# Altium footprint library Connectors_2mm.PcbLib: 81 footprints (part 4 of 6)
Each footprint in its own frame and in the unit in brackets; x right, y up, seen from the top. Pads: shape width x height; smd on the part's side, far side on the other; paste and mask are expansions set on the pad; w line width, h text height; cw(c..) or ccw(c..) is an arc to the next point about the centre after c.
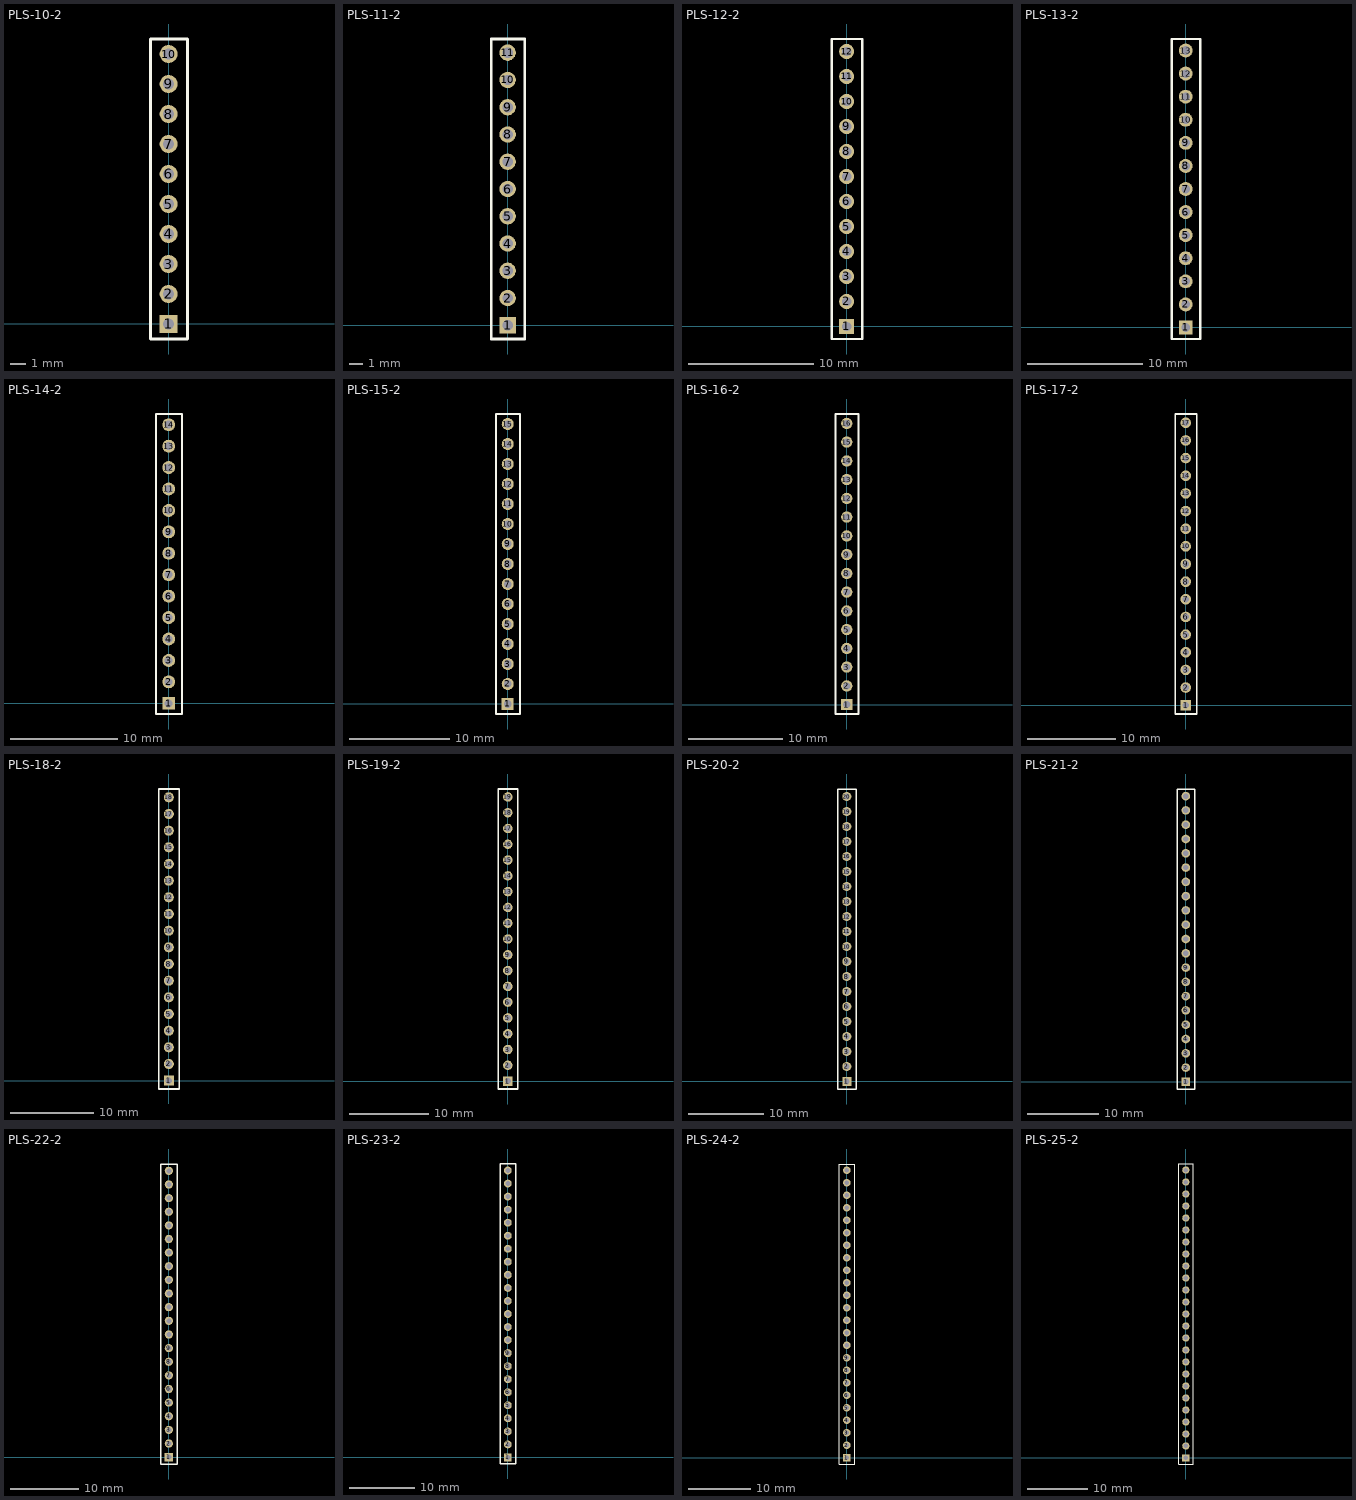
[diagram p3: the footprints below, top view; thin cyan lines are the x and y axes]

## PLS-10-2 [mm] "Connector; Header; 1x10 Position"
height 6
pads (10):
  rect 1.2x1.2 hole 0.75: 1(0,0)
  round 1.2 hole 0.75: 2(0,2) 3(0,4) 4(0,6) 5(0,8)
  round 1.2 hole 0.75 unplated: 6(0,10) 7(0,12) 8(0,14) 9(0,16) 10(0,18)
Top Overlay:
  lines w0.2: -1.2,-1 1.25,-1 1.25,19 -1.2,19 -1.2,-1
3D body "pls-2mm.stp": height 5.5, standoff -2.5, extent -1.2,7 1.2,9
3D body "pls-2mm.stp": height 5.5, standoff -2.5, extent -1.2,5 1.2,7
3D body "pls-2mm.stp": height 5.5, standoff -2.5, extent -1.2,3 1.2,5
3D body "pls-2mm.stp": height 5.5, standoff -2.5, extent -1.2,1 1.2,3
3D body "pls-2mm.stp": height 5.5, standoff -2.5, extent -1.2,-1 1.2,1
3D body "pls-2mm.stp": height 5.5, standoff -2.5, extent -1.2,9 1.2,11
3D body "pls-2mm.stp": height 5.5, standoff -2.5, extent -1.2,11 1.2,13
3D body "pls-2mm.stp": height 5.5, standoff -2.5, extent -1.2,13 1.2,15
3D body "pls-2mm.stp": height 5.5, standoff -2.5, extent -1.2,15 1.2,17
3D body "pls-2mm.stp": height 5.5, standoff -2.5, extent -1.2,17 1.2,19

## PLS-11-2 [mm] "Connector; Header; 1x11 Position"
height 6
pads (11):
  rect 1.2x1.2 hole 0.75: 1(0,0)
  round 1.2 hole 0.75: 2(0,2) 3(0,4) 4(0,6) 5(0,8)
  round 1.2 hole 0.75 unplated: 6(0,10) 7(0,12) 8(0,14) 9(0,16) 10(0,18) 11(0,20)
Top Overlay:
  lines w0.2: -1.2,-1 -1.2,21 1.25,21 1.25,-1 -1.2,-1
3D body "pls-2mm.stp": height 5.5, standoff -2.5, extent -1.2,19 1.2,21
3D body "pls-2mm.stp": height 5.5, standoff -2.5, extent -1.2,17 1.2,19
3D body "pls-2mm.stp": height 5.5, standoff -2.5, extent -1.2,15 1.2,17
3D body "pls-2mm.stp": height 5.5, standoff -2.5, extent -1.2,13 1.2,15
3D body "pls-2mm.stp": height 5.5, standoff -2.5, extent -1.2,11 1.2,13
3D body "pls-2mm.stp": height 5.5, standoff -2.5, extent -1.2,9 1.2,11
3D body "pls-2mm.stp": height 5.5, standoff -2.5, extent -1.2,-1 1.2,1
3D body "pls-2mm.stp": height 5.5, standoff -2.5, extent -1.2,1 1.2,3
3D body "pls-2mm.stp": height 5.5, standoff -2.5, extent -1.2,3 1.2,5
3D body "pls-2mm.stp": height 5.5, standoff -2.5, extent -1.2,5 1.2,7
3D body "pls-2mm.stp": height 5.5, standoff -2.5, extent -1.2,7 1.2,9

## PLS-12-2 [mm] "Connector; Header; 1x12 Position"
height 6
pads (12):
  rect 1.2x1.2 hole 0.75: 1(0,0)
  round 1.2 hole 0.75: 2(0,2) 3(0,4) 4(0,6) 5(0,8)
  round 1.2 hole 0.75 unplated: 6(0,10) 7(0,12) 8(0,14) 9(0,16) 10(0,18) 11(0,20) 12(0,22)
Top Overlay:
  lines w0.2: -1.2,-1 1.25,-1 1.25,23 -1.2,23 -1.2,-1
3D body "pls-2mm.stp": height 5.5, standoff -2.5, extent -1.2,7 1.2,9
3D body "pls-2mm.stp": height 5.5, standoff -2.5, extent -1.2,5 1.2,7
3D body "pls-2mm.stp": height 5.5, standoff -2.5, extent -1.2,3 1.2,5
3D body "pls-2mm.stp": height 5.5, standoff -2.5, extent -1.2,1 1.2,3
3D body "pls-2mm.stp": height 5.5, standoff -2.5, extent -1.2,-1 1.2,1
3D body "pls-2mm.stp": height 5.5, standoff -2.5, extent -1.2,9 1.2,11
3D body "pls-2mm.stp": height 5.5, standoff -2.5, extent -1.2,11 1.2,13
3D body "pls-2mm.stp": height 5.5, standoff -2.5, extent -1.2,13 1.2,15
3D body "pls-2mm.stp": height 5.5, standoff -2.5, extent -1.2,15 1.2,17
3D body "pls-2mm.stp": height 5.5, standoff -2.5, extent -1.2,17 1.2,19
3D body "pls-2mm.stp": height 5.5, standoff -2.5, extent -1.2,19 1.2,21
3D body "pls-2mm.stp": height 5.5, standoff -2.5, extent -1.2,21 1.2,23

## PLS-13-2 [mm] "Connector; Header; 1x13 Position"
height 6
pads (13):
  rect 1.2x1.2 hole 0.75: 1(0,0)
  round 1.2 hole 0.75: 2(0,2) 3(0,4) 4(0,6) 5(0,8)
  round 1.2 hole 0.75 unplated: 6(0,10) 7(0,12) 8(0,14) 9(0,16) 10(0,18) 11(0,20) 12(0,22) 13(0,24)
Top Overlay:
  lines w0.2: -1.2,-1 1.25,-1 1.25,25 -1.2,25 -1.2,-1
3D body "pls-2mm.stp": height 5.5, standoff -2.5, extent -1.2,7 1.2,9
3D body "pls-2mm.stp": height 5.5, standoff -2.5, extent -1.2,5 1.2,7
3D body "pls-2mm.stp": height 5.5, standoff -2.5, extent -1.2,3 1.2,5
3D body "pls-2mm.stp": height 5.5, standoff -2.5, extent -1.2,1 1.2,3
3D body "pls-2mm.stp": height 5.5, standoff -2.5, extent -1.2,-1 1.2,1
3D body "pls-2mm.stp": height 5.5, standoff -2.5, extent -1.2,9 1.2,11
3D body "pls-2mm.stp": height 5.5, standoff -2.5, extent -1.2,11 1.2,13
3D body "pls-2mm.stp": height 5.5, standoff -2.5, extent -1.2,13 1.2,15
3D body "pls-2mm.stp": height 5.5, standoff -2.5, extent -1.2,15 1.2,17
3D body "pls-2mm.stp": height 5.5, standoff -2.5, extent -1.2,17 1.2,19
3D body "pls-2mm.stp": height 5.5, standoff -2.5, extent -1.2,19 1.2,21
3D body "pls-2mm.stp": height 5.5, standoff -2.5, extent -1.2,21 1.2,23
3D body "pls-2mm.stp": height 5.5, standoff -2.5, extent -1.2,23 1.2,25

## PLS-14-2 [mm] "Connector; Header; 1x14 Position"
height 6
pads (14):
  rect 1.2x1.2 hole 0.75: 1(0,0)
  round 1.2 hole 0.75: 2(0,2) 3(0,4) 4(0,6) 5(0,8)
  round 1.2 hole 0.75 unplated: 6(0,10) 7(0,12) 8(0,14) 9(0,16) 10(0,18) 11(0,20) 12(0,22) 13(0,24) 14(0,26)
Top Overlay:
  lines w0.2: -1.2,-1 -1.2,27 1.25,27 1.25,-1 -1.2,-1
3D body "pls-2mm.stp": height 5.5, standoff -2.5, extent -1.2,25 1.2,27
3D body "pls-2mm.stp": height 5.5, standoff -2.5, extent -1.2,23 1.2,25
3D body "pls-2mm.stp": height 5.5, standoff -2.5, extent -1.2,21 1.2,23
3D body "pls-2mm.stp": height 5.5, standoff -2.5, extent -1.2,19 1.2,21
3D body "pls-2mm.stp": height 5.5, standoff -2.5, extent -1.2,17 1.2,19
3D body "pls-2mm.stp": height 5.5, standoff -2.5, extent -1.2,15 1.2,17
3D body "pls-2mm.stp": height 5.5, standoff -2.5, extent -1.2,13 1.2,15
3D body "pls-2mm.stp": height 5.5, standoff -2.5, extent -1.2,11 1.2,13
3D body "pls-2mm.stp": height 5.5, standoff -2.5, extent -1.2,9 1.2,11
3D body "pls-2mm.stp": height 5.5, standoff -2.5, extent -1.2,-1 1.2,1
3D body "pls-2mm.stp": height 5.5, standoff -2.5, extent -1.2,1 1.2,3
3D body "pls-2mm.stp": height 5.5, standoff -2.5, extent -1.2,3 1.2,5
3D body "pls-2mm.stp": height 5.5, standoff -2.5, extent -1.2,5 1.2,7
3D body "pls-2mm.stp": height 5.5, standoff -2.5, extent -1.2,7 1.2,9

## PLS-15-2 [mm] "Connector; Header; 1x15 Position"
height 6
pads (15):
  rect 1.2x1.2 hole 0.75: 1(0,0)
  round 1.2 hole 0.75: 2(0,2) 3(0,4) 4(0,6) 5(0,8)
  round 1.2 hole 0.75 unplated: 6(0,10) 7(0,12) 8(0,14) 9(0,16) 10(0,18) 11(0,20) 12(0,22) 13(0,24) 14(0,26) 15(0,28)
Top Overlay:
  lines w0.2: -1.2,-1 1.25,-1 1.25,29 -1.2,29 -1.2,-1
3D body "pls-2mm.stp": height 5.5, standoff -2.5, extent -1.2,7 1.2,9
3D body "pls-2mm.stp": height 5.5, standoff -2.5, extent -1.2,5 1.2,7
3D body "pls-2mm.stp": height 5.5, standoff -2.5, extent -1.2,3 1.2,5
3D body "pls-2mm.stp": height 5.5, standoff -2.5, extent -1.2,1 1.2,3
3D body "pls-2mm.stp": height 5.5, standoff -2.5, extent -1.2,-1 1.2,1
3D body "pls-2mm.stp": height 5.5, standoff -2.5, extent -1.2,9 1.2,11
3D body "pls-2mm.stp": height 5.5, standoff -2.5, extent -1.2,11 1.2,13
3D body "pls-2mm.stp": height 5.5, standoff -2.5, extent -1.2,13 1.2,15
3D body "pls-2mm.stp": height 5.5, standoff -2.5, extent -1.2,15 1.2,17
3D body "pls-2mm.stp": height 5.5, standoff -2.5, extent -1.2,17 1.2,19
3D body "pls-2mm.stp": height 5.5, standoff -2.5, extent -1.2,19 1.2,21
3D body "pls-2mm.stp": height 5.5, standoff -2.5, extent -1.2,21 1.2,23
3D body "pls-2mm.stp": height 5.5, standoff -2.5, extent -1.2,23 1.2,25
3D body "pls-2mm.stp": height 5.5, standoff -2.5, extent -1.2,25 1.2,27
3D body "pls-2mm.stp": height 5.5, standoff -2.5, extent -1.2,27 1.2,29

## PLS-16-2 [mm] "Connector; Header; 1x16 Position"
height 6
pads (16):
  rect 1.2x1.2 hole 0.75: 1(0,0)
  round 1.2 hole 0.75: 2(0,2) 3(0,4) 4(0,6) 5(0,8)
  round 1.2 hole 0.75 unplated: 6(0,10) 7(0,12) 8(0,14) 9(0,16) 10(0,18) 11(0,20) 12(0,22) 13(0,24) 14(0,26) 15(0,28) 16(0,30)
Top Overlay:
  lines w0.2: -1.2,-1 -1.2,31 1.25,31 1.25,-1 -1.2,-1
3D body "pls-2mm.stp": height 5.5, standoff -2.5, extent -1.2,29 1.2,31
3D body "pls-2mm.stp": height 5.5, standoff -2.5, extent -1.2,27 1.2,29
3D body "pls-2mm.stp": height 5.5, standoff -2.5, extent -1.2,25 1.2,27
3D body "pls-2mm.stp": height 5.5, standoff -2.5, extent -1.2,23 1.2,25
3D body "pls-2mm.stp": height 5.5, standoff -2.5, extent -1.2,21 1.2,23
3D body "pls-2mm.stp": height 5.5, standoff -2.5, extent -1.2,19 1.2,21
3D body "pls-2mm.stp": height 5.5, standoff -2.5, extent -1.2,17 1.2,19
3D body "pls-2mm.stp": height 5.5, standoff -2.5, extent -1.2,15 1.2,17
3D body "pls-2mm.stp": height 5.5, standoff -2.5, extent -1.2,13 1.2,15
3D body "pls-2mm.stp": height 5.5, standoff -2.5, extent -1.2,11 1.2,13
3D body "pls-2mm.stp": height 5.5, standoff -2.5, extent -1.2,9 1.2,11
3D body "pls-2mm.stp": height 5.5, standoff -2.5, extent -1.2,-1 1.2,1
3D body "pls-2mm.stp": height 5.5, standoff -2.5, extent -1.2,1 1.2,3
3D body "pls-2mm.stp": height 5.5, standoff -2.5, extent -1.2,3 1.2,5
3D body "pls-2mm.stp": height 5.5, standoff -2.5, extent -1.2,5 1.2,7
3D body "pls-2mm.stp": height 5.5, standoff -2.5, extent -1.2,7 1.2,9

## PLS-17-2 [mm] "Connector; Header; 1x17 Position"
height 6
pads (17):
  rect 1.2x1.2 hole 0.75: 1(0,0)
  round 1.2 hole 0.75: 2(0,2) 3(0,4) 4(0,6) 5(0,8)
  round 1.2 hole 0.75 unplated: 6(0,10) 7(0,12) 8(0,14) 9(0,16) 10(0,18) 11(0,20) 12(0,22) 13(0,24) 14(0,26) 15(0,28) 16(0,30) 17(0,32)
Top Overlay:
  lines w0.2: -1.2,-1 1.25,-1 1.25,33 -1.2,33 -1.2,-1
3D body "pls-2mm.stp": height 5.5, standoff -2.5, extent -1.2,7 1.2,9
3D body "pls-2mm.stp": height 5.5, standoff -2.5, extent -1.2,5 1.2,7
3D body "pls-2mm.stp": height 5.5, standoff -2.5, extent -1.2,3 1.2,5
3D body "pls-2mm.stp": height 5.5, standoff -2.5, extent -1.2,1 1.2,3
3D body "pls-2mm.stp": height 5.5, standoff -2.5, extent -1.2,-1 1.2,1
3D body "pls-2mm.stp": height 5.5, standoff -2.5, extent -1.2,9 1.2,11
3D body "pls-2mm.stp": height 5.5, standoff -2.5, extent -1.2,11 1.2,13
3D body "pls-2mm.stp": height 5.5, standoff -2.5, extent -1.2,13 1.2,15
3D body "pls-2mm.stp": height 5.5, standoff -2.5, extent -1.2,15 1.2,17
3D body "pls-2mm.stp": height 5.5, standoff -2.5, extent -1.2,17 1.2,19
3D body "pls-2mm.stp": height 5.5, standoff -2.5, extent -1.2,19 1.2,21
3D body "pls-2mm.stp": height 5.5, standoff -2.5, extent -1.2,21 1.2,23
3D body "pls-2mm.stp": height 5.5, standoff -2.5, extent -1.2,23 1.2,25
3D body "pls-2mm.stp": height 5.5, standoff -2.5, extent -1.2,25 1.2,27
3D body "pls-2mm.stp": height 5.5, standoff -2.5, extent -1.2,27 1.2,29
3D body "pls-2mm.stp": height 5.5, standoff -2.5, extent -1.2,29 1.2,31
3D body "pls-2mm.stp": height 5.5, standoff -2.5, extent -1.2,31 1.2,33

## PLS-18-2 [mm] "Connector; Header; 1x18 Position"
height 6
pads (18):
  rect 1.2x1.2 hole 0.75: 1(0,0)
  round 1.2 hole 0.75: 2(0,2) 3(0,4) 4(0,6) 5(0,8)
  round 1.2 hole 0.75 unplated: 6(0,10) 7(0,12) 8(0,14) 9(0,16) 10(0,18) 11(0,20) 12(0,22) 13(0,24) 14(0,26) 15(0,28) 16(0,30) 17(0,32) 18(0,34)
Top Overlay:
  lines w0.2: -1.2,-1 -1.2,35 1.25,35 1.25,-1 -1.2,-1
3D body "pls-2mm.stp": height 5.5, standoff -2.5, extent -1.2,33 1.2,35
3D body "pls-2mm.stp": height 5.5, standoff -2.5, extent -1.2,31 1.2,33
3D body "pls-2mm.stp": height 5.5, standoff -2.5, extent -1.2,29 1.2,31
3D body "pls-2mm.stp": height 5.5, standoff -2.5, extent -1.2,27 1.2,29
3D body "pls-2mm.stp": height 5.5, standoff -2.5, extent -1.2,25 1.2,27
3D body "pls-2mm.stp": height 5.5, standoff -2.5, extent -1.2,23 1.2,25
3D body "pls-2mm.stp": height 5.5, standoff -2.5, extent -1.2,21 1.2,23
3D body "pls-2mm.stp": height 5.5, standoff -2.5, extent -1.2,19 1.2,21
3D body "pls-2mm.stp": height 5.5, standoff -2.5, extent -1.2,17 1.2,19
3D body "pls-2mm.stp": height 5.5, standoff -2.5, extent -1.2,15 1.2,17
3D body "pls-2mm.stp": height 5.5, standoff -2.5, extent -1.2,13 1.2,15
3D body "pls-2mm.stp": height 5.5, standoff -2.5, extent -1.2,11 1.2,13
3D body "pls-2mm.stp": height 5.5, standoff -2.5, extent -1.2,9 1.2,11
3D body "pls-2mm.stp": height 5.5, standoff -2.5, extent -1.2,-1 1.2,1
3D body "pls-2mm.stp": height 5.5, standoff -2.5, extent -1.2,1 1.2,3
3D body "pls-2mm.stp": height 5.5, standoff -2.5, extent -1.2,3 1.2,5
3D body "pls-2mm.stp": height 5.5, standoff -2.5, extent -1.2,5 1.2,7
3D body "pls-2mm.stp": height 5.5, standoff -2.5, extent -1.2,7 1.2,9

## PLS-19-2 [mm] "Connector; Header; 1x19 Position"
height 6
pads (19):
  rect 1.2x1.2 hole 0.75: 1(0,0)
  round 1.2 hole 0.75: 2(0,2) 3(0,4) 4(0,6) 5(0,8)
  round 1.2 hole 0.75 unplated: 6(0,10) 7(0,12) 8(0,14) 9(0,16) 10(0,18) 11(0,20) 12(0,22) 13(0,24) 14(0,26) 15(0,28) 16(0,30) 17(0,32) 18(0,34) 19(0,36)
Top Overlay:
  lines w0.2: -1.2,-1 -1.2,37 1.25,37 1.25,-1 -1.2,-1
3D body "pls-2mm.stp": height 5.5, standoff -2.5, extent -1.2,35 1.2,37
3D body "pls-2mm.stp": height 5.5, standoff -2.5, extent -1.2,33 1.2,35
3D body "pls-2mm.stp": height 5.5, standoff -2.5, extent -1.2,31 1.2,33
3D body "pls-2mm.stp": height 5.5, standoff -2.5, extent -1.2,29 1.2,31
3D body "pls-2mm.stp": height 5.5, standoff -2.5, extent -1.2,27 1.2,29
3D body "pls-2mm.stp": height 5.5, standoff -2.5, extent -1.2,25 1.2,27
3D body "pls-2mm.stp": height 5.5, standoff -2.5, extent -1.2,23 1.2,25
3D body "pls-2mm.stp": height 5.5, standoff -2.5, extent -1.2,21 1.2,23
3D body "pls-2mm.stp": height 5.5, standoff -2.5, extent -1.2,19 1.2,21
3D body "pls-2mm.stp": height 5.5, standoff -2.5, extent -1.2,17 1.2,19
3D body "pls-2mm.stp": height 5.5, standoff -2.5, extent -1.2,15 1.2,17
3D body "pls-2mm.stp": height 5.5, standoff -2.5, extent -1.2,13 1.2,15
3D body "pls-2mm.stp": height 5.5, standoff -2.5, extent -1.2,11 1.2,13
3D body "pls-2mm.stp": height 5.5, standoff -2.5, extent -1.2,9 1.2,11
3D body "pls-2mm.stp": height 5.5, standoff -2.5, extent -1.2,-1 1.2,1
3D body "pls-2mm.stp": height 5.5, standoff -2.5, extent -1.2,1 1.2,3
3D body "pls-2mm.stp": height 5.5, standoff -2.5, extent -1.2,3 1.2,5
3D body "pls-2mm.stp": height 5.5, standoff -2.5, extent -1.2,5 1.2,7
3D body "pls-2mm.stp": height 5.5, standoff -2.5, extent -1.2,7 1.2,9

## PLS-20-2 [mm] "Connector; Header; 1x20 Position"
height 6
pads (20):
  rect 1.2x1.2 hole 0.75: 1(0,0)
  round 1.2 hole 0.75: 2(0,2) 3(0,4) 4(0,6) 5(0,8)
  round 1.2 hole 0.75 unplated: 6(0,10) 7(0,12) 8(0,14) 9(0,16) 10(0,18) 11(0,20) 12(0,22) 13(0,24) 14(0,26) 15(0,28) 16(0,30) 17(0,32) 18(0,34) 19(0,36) 20(0,38)
Top Overlay:
  lines w0.2: -1.2,-1 -1.2,39 1.25,39 1.25,-1 -1.2,-1
3D body "pls-2mm.stp": height 5.5, standoff -2.5, extent -1.2,37 1.2,39
3D body "pls-2mm.stp": height 5.5, standoff -2.5, extent -1.2,35 1.2,37
3D body "pls-2mm.stp": height 5.5, standoff -2.5, extent -1.2,33 1.2,35
3D body "pls-2mm.stp": height 5.5, standoff -2.5, extent -1.2,31 1.2,33
3D body "pls-2mm.stp": height 5.5, standoff -2.5, extent -1.2,29 1.2,31
3D body "pls-2mm.stp": height 5.5, standoff -2.5, extent -1.2,27 1.2,29
3D body "pls-2mm.stp": height 5.5, standoff -2.5, extent -1.2,25 1.2,27
3D body "pls-2mm.stp": height 5.5, standoff -2.5, extent -1.2,23 1.2,25
3D body "pls-2mm.stp": height 5.5, standoff -2.5, extent -1.2,21 1.2,23
3D body "pls-2mm.stp": height 5.5, standoff -2.5, extent -1.2,19 1.2,21
3D body "pls-2mm.stp": height 5.5, standoff -2.5, extent -1.2,17 1.2,19
3D body "pls-2mm.stp": height 5.5, standoff -2.5, extent -1.2,15 1.2,17
3D body "pls-2mm.stp": height 5.5, standoff -2.5, extent -1.2,13 1.2,15
3D body "pls-2mm.stp": height 5.5, standoff -2.5, extent -1.2,11 1.2,13
3D body "pls-2mm.stp": height 5.5, standoff -2.5, extent -1.2,9 1.2,11
3D body "pls-2mm.stp": height 5.5, standoff -2.5, extent -1.2,-1 1.2,1
3D body "pls-2mm.stp": height 5.5, standoff -2.5, extent -1.2,1 1.2,3
3D body "pls-2mm.stp": height 5.5, standoff -2.5, extent -1.2,3 1.2,5
3D body "pls-2mm.stp": height 5.5, standoff -2.5, extent -1.2,5 1.2,7
3D body "pls-2mm.stp": height 5.5, standoff -2.5, extent -1.2,7 1.2,9

## PLS-21-2 [mm] "Connector; Header; 1x21 Position"
height 6
pads (21):
  rect 1.2x1.2 hole 0.75: 1(0,0)
  round 1.2 hole 0.75: 2(0,2) 3(0,4) 4(0,6) 5(0,8)
  round 1.2 hole 0.75 unplated: 6(0,10) 7(0,12) 8(0,14) 9(0,16) 10(0,18) 11(0,20) 12(0,22) 13(0,24) 14(0,26) 15(0,28) 16(0,30) 17(0,32) 18(0,34) 19(0,36) 20(0,38) 21(0,40)
Top Overlay:
  lines w0.2: -1.2,-1 -1.2,41 1.25,41 1.25,-1 -1.2,-1
3D body "pls-2mm.stp": height 5.5, standoff -2.5, extent -1.2,39 1.2,41
3D body "pls-2mm.stp": height 5.5, standoff -2.5, extent -1.2,37 1.2,39
3D body "pls-2mm.stp": height 5.5, standoff -2.5, extent -1.2,35 1.2,37
3D body "pls-2mm.stp": height 5.5, standoff -2.5, extent -1.2,33 1.2,35
3D body "pls-2mm.stp": height 5.5, standoff -2.5, extent -1.2,31 1.2,33
3D body "pls-2mm.stp": height 5.5, standoff -2.5, extent -1.2,29 1.2,31
3D body "pls-2mm.stp": height 5.5, standoff -2.5, extent -1.2,27 1.2,29
3D body "pls-2mm.stp": height 5.5, standoff -2.5, extent -1.2,25 1.2,27
3D body "pls-2mm.stp": height 5.5, standoff -2.5, extent -1.2,23 1.2,25
3D body "pls-2mm.stp": height 5.5, standoff -2.5, extent -1.2,21 1.2,23
3D body "pls-2mm.stp": height 5.5, standoff -2.5, extent -1.2,19 1.2,21
3D body "pls-2mm.stp": height 5.5, standoff -2.5, extent -1.2,17 1.2,19
3D body "pls-2mm.stp": height 5.5, standoff -2.5, extent -1.2,15 1.2,17
3D body "pls-2mm.stp": height 5.5, standoff -2.5, extent -1.2,13 1.2,15
3D body "pls-2mm.stp": height 5.5, standoff -2.5, extent -1.2,11 1.2,13
3D body "pls-2mm.stp": height 5.5, standoff -2.5, extent -1.2,9 1.2,11
3D body "pls-2mm.stp": height 5.5, standoff -2.5, extent -1.2,-1 1.2,1
3D body "pls-2mm.stp": height 5.5, standoff -2.5, extent -1.2,1 1.2,3
3D body "pls-2mm.stp": height 5.5, standoff -2.5, extent -1.2,3 1.2,5
3D body "pls-2mm.stp": height 5.5, standoff -2.5, extent -1.2,5 1.2,7
3D body "pls-2mm.stp": height 5.5, standoff -2.5, extent -1.2,7 1.2,9

## PLS-22-2 [mm] "Connector; Header; 1x22 Position"
height 6
pads (22):
  rect 1.2x1.2 hole 0.75: 1(0,0)
  round 1.2 hole 0.75: 2(0,2) 3(0,4) 4(0,6) 5(0,8)
  round 1.2 hole 0.75 unplated: 6(0,10) 7(0,12) 8(0,14) 9(0,16) 10(0,18) 11(0,20) 12(0,22) 13(0,24) 14(0,26) 15(0,28) 16(0,30) 17(0,32) 18(0,34) 19(0,36) 20(0,38) 21(0,40) 22(0,42)
Top Overlay:
  lines w0.2: -1.2,-1 -1.2,43 1.25,43 1.25,-1 -1.2,-1
3D body "pls-2mm.stp": height 5.5, standoff -2.5, extent -1.2,41 1.2,43
3D body "pls-2mm.stp": height 5.5, standoff -2.5, extent -1.2,39 1.2,41
3D body "pls-2mm.stp": height 5.5, standoff -2.5, extent -1.2,37 1.2,39
3D body "pls-2mm.stp": height 5.5, standoff -2.5, extent -1.2,35 1.2,37
3D body "pls-2mm.stp": height 5.5, standoff -2.5, extent -1.2,33 1.2,35
3D body "pls-2mm.stp": height 5.5, standoff -2.5, extent -1.2,31 1.2,33
3D body "pls-2mm.stp": height 5.5, standoff -2.5, extent -1.2,29 1.2,31
3D body "pls-2mm.stp": height 5.5, standoff -2.5, extent -1.2,27 1.2,29
3D body "pls-2mm.stp": height 5.5, standoff -2.5, extent -1.2,25 1.2,27
3D body "pls-2mm.stp": height 5.5, standoff -2.5, extent -1.2,23 1.2,25
3D body "pls-2mm.stp": height 5.5, standoff -2.5, extent -1.2,21 1.2,23
3D body "pls-2mm.stp": height 5.5, standoff -2.5, extent -1.2,19 1.2,21
3D body "pls-2mm.stp": height 5.5, standoff -2.5, extent -1.2,17 1.2,19
3D body "pls-2mm.stp": height 5.5, standoff -2.5, extent -1.2,15 1.2,17
3D body "pls-2mm.stp": height 5.5, standoff -2.5, extent -1.2,13 1.2,15
3D body "pls-2mm.stp": height 5.5, standoff -2.5, extent -1.2,11 1.2,13
3D body "pls-2mm.stp": height 5.5, standoff -2.5, extent -1.2,9 1.2,11
3D body "pls-2mm.stp": height 5.5, standoff -2.5, extent -1.2,-1 1.2,1
3D body "pls-2mm.stp": height 5.5, standoff -2.5, extent -1.2,1 1.2,3
3D body "pls-2mm.stp": height 5.5, standoff -2.5, extent -1.2,3 1.2,5
3D body "pls-2mm.stp": height 5.5, standoff -2.5, extent -1.2,5 1.2,7
3D body "pls-2mm.stp": height 5.5, standoff -2.5, extent -1.2,7 1.2,9

## PLS-23-2 [mm] "Connector; Header; 1x23 Position"
height 6
pads (23):
  rect 1.2x1.2 hole 0.75: 1(0,0)
  round 1.2 hole 0.75: 2(0,2) 3(0,4) 4(0,6) 5(0,8)
  round 1.2 hole 0.75 unplated: 6(0,10) 7(0,12) 8(0,14) 9(0,16) 10(0,18) 11(0,20) 12(0,22) 13(0,24) 14(0,26) 15(0,28) 16(0,30) 17(0,32) 18(0,34) 19(0,36) 20(0,38) 21(0,40) 22(0,42) 23(0,44)
Top Overlay:
  lines w0.2: -1.2,-1 1.25,-1 1.25,45 -1.2,45 -1.2,-1
3D body "pls-2mm.stp": height 5.5, standoff -2.5, extent -1.2,7 1.2,9
3D body "pls-2mm.stp": height 5.5, standoff -2.5, extent -1.2,5 1.2,7
3D body "pls-2mm.stp": height 5.5, standoff -2.5, extent -1.2,3 1.2,5
3D body "pls-2mm.stp": height 5.5, standoff -2.5, extent -1.2,1 1.2,3
3D body "pls-2mm.stp": height 5.5, standoff -2.5, extent -1.2,-1 1.2,1
3D body "pls-2mm.stp": height 5.5, standoff -2.5, extent -1.2,9 1.2,11
3D body "pls-2mm.stp": height 5.5, standoff -2.5, extent -1.2,11 1.2,13
3D body "pls-2mm.stp": height 5.5, standoff -2.5, extent -1.2,13 1.2,15
3D body "pls-2mm.stp": height 5.5, standoff -2.5, extent -1.2,15 1.2,17
3D body "pls-2mm.stp": height 5.5, standoff -2.5, extent -1.2,17 1.2,19
3D body "pls-2mm.stp": height 5.5, standoff -2.5, extent -1.2,19 1.2,21
3D body "pls-2mm.stp": height 5.5, standoff -2.5, extent -1.2,21 1.2,23
3D body "pls-2mm.stp": height 5.5, standoff -2.5, extent -1.2,23 1.2,25
3D body "pls-2mm.stp": height 5.5, standoff -2.5, extent -1.2,25 1.2,27
3D body "pls-2mm.stp": height 5.5, standoff -2.5, extent -1.2,27 1.2,29
3D body "pls-2mm.stp": height 5.5, standoff -2.5, extent -1.2,29 1.2,31
3D body "pls-2mm.stp": height 5.5, standoff -2.5, extent -1.2,31 1.2,33
3D body "pls-2mm.stp": height 5.5, standoff -2.5, extent -1.2,33 1.2,35
3D body "pls-2mm.stp": height 5.5, standoff -2.5, extent -1.2,35 1.2,37
3D body "pls-2mm.stp": height 5.5, standoff -2.5, extent -1.2,37 1.2,39
3D body "pls-2mm.stp": height 5.5, standoff -2.5, extent -1.2,39 1.2,41
3D body "pls-2mm.stp": height 5.5, standoff -2.5, extent -1.2,41 1.2,43
3D body "pls-2mm.stp": height 5.5, standoff -2.5, extent -1.2,43 1.2,45

## PLS-24-2 [mm] "Connector; Header; 1x24 Position"
height 6
pads (24):
  rect 1.2x1.2 hole 0.75: 1(0,0)
  round 1.2 hole 0.75: 2(0,2) 3(0,4) 4(0,6) 5(0,8)
  round 1.2 hole 0.75 unplated: 6(0,10) 7(0,12) 8(0,14) 9(0,16) 10(0,18) 11(0,20) 12(0,22) 13(0,24) 14(0,26) 15(0,28) 16(0,30) 17(0,32) 18(0,34) 19(0,36) 20(0,38) 21(0,40) 22(0,42) 23(0,44) 24(0,46)
Top Overlay:
  lines w0.2: -1.2,-1 -1.2,47 1.25,47 1.25,-1 -1.2,-1
3D body "pls-2mm.stp": height 5.5, standoff -2.5, extent -1.2,45 1.2,47
3D body "pls-2mm.stp": height 5.5, standoff -2.5, extent -1.2,43 1.2,45
3D body "pls-2mm.stp": height 5.5, standoff -2.5, extent -1.2,41 1.2,43
3D body "pls-2mm.stp": height 5.5, standoff -2.5, extent -1.2,39 1.2,41
3D body "pls-2mm.stp": height 5.5, standoff -2.5, extent -1.2,37 1.2,39
3D body "pls-2mm.stp": height 5.5, standoff -2.5, extent -1.2,35 1.2,37
3D body "pls-2mm.stp": height 5.5, standoff -2.5, extent -1.2,33 1.2,35
3D body "pls-2mm.stp": height 5.5, standoff -2.5, extent -1.2,31 1.2,33
3D body "pls-2mm.stp": height 5.5, standoff -2.5, extent -1.2,29 1.2,31
3D body "pls-2mm.stp": height 5.5, standoff -2.5, extent -1.2,27 1.2,29
3D body "pls-2mm.stp": height 5.5, standoff -2.5, extent -1.2,25 1.2,27
3D body "pls-2mm.stp": height 5.5, standoff -2.5, extent -1.2,23 1.2,25
3D body "pls-2mm.stp": height 5.5, standoff -2.5, extent -1.2,21 1.2,23
3D body "pls-2mm.stp": height 5.5, standoff -2.5, extent -1.2,19 1.2,21
3D body "pls-2mm.stp": height 5.5, standoff -2.5, extent -1.2,17 1.2,19
3D body "pls-2mm.stp": height 5.5, standoff -2.5, extent -1.2,15 1.2,17
3D body "pls-2mm.stp": height 5.5, standoff -2.5, extent -1.2,13 1.2,15
3D body "pls-2mm.stp": height 5.5, standoff -2.5, extent -1.2,11 1.2,13
3D body "pls-2mm.stp": height 5.5, standoff -2.5, extent -1.2,9 1.2,11
3D body "pls-2mm.stp": height 5.5, standoff -2.5, extent -1.2,-1 1.2,1
3D body "pls-2mm.stp": height 5.5, standoff -2.5, extent -1.2,1 1.2,3
3D body "pls-2mm.stp": height 5.5, standoff -2.5, extent -1.2,3 1.2,5
3D body "pls-2mm.stp": height 5.5, standoff -2.5, extent -1.2,5 1.2,7
3D body "pls-2mm.stp": height 5.5, standoff -2.5, extent -1.2,7 1.2,9

## PLS-25-2 [mm] "Connector; Header; 1x25 Position"
height 6
pads (25):
  rect 1.2x1.2 hole 0.75: 1(0,0)
  round 1.2 hole 0.75: 2(0,2) 3(0,4) 4(0,6) 5(0,8)
  round 1.2 hole 0.75 unplated: 6(0,10) 7(0,12) 8(0,14) 9(0,16) 10(0,18) 11(0,20) 12(0,22) 13(0,24) 14(0,26) 15(0,28) 16(0,30) 17(0,32) 18(0,34) 19(0,36) 20(0,38) 21(0,40) 22(0,42) 23(0,44) 24(0,46) 25(0,48)
Top Overlay:
  lines w0.2: -1.2,-1 1.25,-1 1.25,49 -1.2,49 -1.2,-1
3D body "pls-2mm.stp": height 5.5, standoff -2.5, extent -1.2,7 1.2,9
3D body "pls-2mm.stp": height 5.5, standoff -2.5, extent -1.2,5 1.2,7
3D body "pls-2mm.stp": height 5.5, standoff -2.5, extent -1.2,3 1.2,5
3D body "pls-2mm.stp": height 5.5, standoff -2.5, extent -1.2,1 1.2,3
3D body "pls-2mm.stp": height 5.5, standoff -2.5, extent -1.2,-1 1.2,1
3D body "pls-2mm.stp": height 5.5, standoff -2.5, extent -1.2,9 1.2,11
3D body "pls-2mm.stp": height 5.5, standoff -2.5, extent -1.2,11 1.2,13
3D body "pls-2mm.stp": height 5.5, standoff -2.5, extent -1.2,13 1.2,15
3D body "pls-2mm.stp": height 5.5, standoff -2.5, extent -1.2,15 1.2,17
3D body "pls-2mm.stp": height 5.5, standoff -2.5, extent -1.2,17 1.2,19
3D body "pls-2mm.stp": height 5.5, standoff -2.5, extent -1.2,19 1.2,21
3D body "pls-2mm.stp": height 5.5, standoff -2.5, extent -1.2,21 1.2,23
3D body "pls-2mm.stp": height 5.5, standoff -2.5, extent -1.2,23 1.2,25
3D body "pls-2mm.stp": height 5.5, standoff -2.5, extent -1.2,25 1.2,27
3D body "pls-2mm.stp": height 5.5, standoff -2.5, extent -1.2,27 1.2,29
3D body "pls-2mm.stp": height 5.5, standoff -2.5, extent -1.2,29 1.2,31
3D body "pls-2mm.stp": height 5.5, standoff -2.5, extent -1.2,31 1.2,33
3D body "pls-2mm.stp": height 5.5, standoff -2.5, extent -1.2,33 1.2,35
3D body "pls-2mm.stp": height 5.5, standoff -2.5, extent -1.2,35 1.2,37
3D body "pls-2mm.stp": height 5.5, standoff -2.5, extent -1.2,37 1.2,39
3D body "pls-2mm.stp": height 5.5, standoff -2.5, extent -1.2,39 1.2,41
3D body "pls-2mm.stp": height 5.5, standoff -2.5, extent -1.2,41 1.2,43
3D body "pls-2mm.stp": height 5.5, standoff -2.5, extent -1.2,43 1.2,45
3D body "pls-2mm.stp": height 5.5, standoff -2.5, extent -1.2,45 1.2,47
3D body "pls-2mm.stp": height 5.5, standoff -2.5, extent -1.2,47 1.2,49